# EAGLE library part PINHD-2X4 (library mcu-accessories)
PIN HEADER
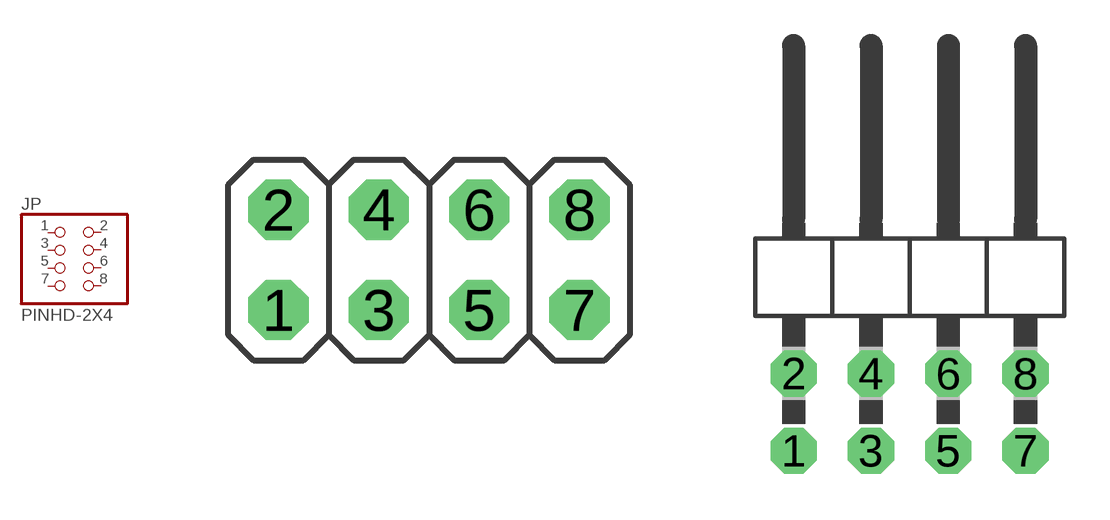
[diagram p7: symbol with the pads of 2X04; footprints 2X04, 2X04/90]

Designator prefix JP

## PINHD-2X4  [2X04]
1  1  pas
2  2  pas
3  3  pas
4  4  pas
5  5  pas
6  6  pas
7  7  pas
8  8  pas

## PINHD-2X4/90  [2X04/90]
Pads as for 2X04

## PINHD-2X4SMT  [2X4SMT]
Pads as for 2X04

## PINHD-2X4-SHROUD  [ML08]
Pads as for 2X04

## Footprint 2X04 (pad centres in mm)
PIN HEADER
drill 1.016 octagon: 1 -3.81,-1.27; 2 -3.81,1.27; 3 -1.27,-1.27; 4 -1.27,1.27; 5 1.27,-1.27; 6 1.27,1.27; 7 3.81,-1.27; 8 3.81,1.27

## Footprint 2X04/90 (pad centres in mm)
PIN HEADER
drill 1.016 octagon: 1 -3.81,-6.35; 2 -3.81,-3.81; 3 -1.27,-6.35; 4 -1.27,-3.81; 5 1.27,-6.35; 6 1.27,-3.81; 7 3.81,-6.35; 8 3.81,-3.81

## Footprint 2X4SMT (pad centres in mm)
smd 1.27 x 3.683: 1 -3.81,-2.286; 2 -3.81,2.159; 3 -1.27,-2.286; 4 -1.27,2.159; 5 1.27,-2.286; 6 1.27,2.159; 7 3.81,-2.286; 8 3.81,2.159

## Footprint ML08 (pad centres in mm)
drill 0.914 octagon: 1 -3.81,-1.27; 2 -3.81,1.27; 3 -1.27,-1.27; 4 -1.27,1.27; 5 1.27,-1.27; 6 1.27,1.27; 7 3.81,-1.27; 8 3.81,1.27